# EAGLE library part LED-RGB-3W (library yapo)
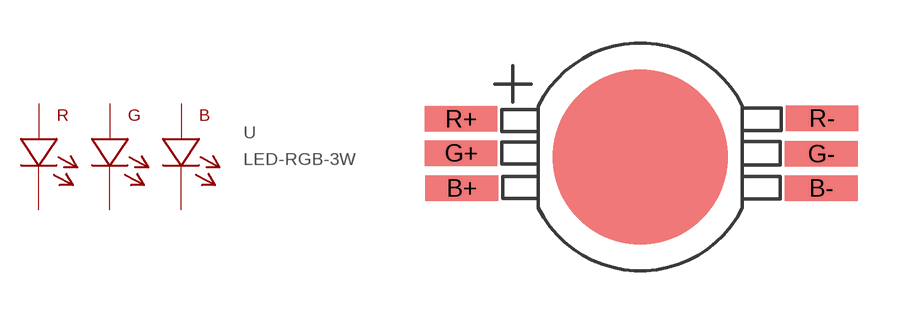
[diagram p83: symbol with the pads of LED_3W_RGB; footprint LED_3W_RGB]

Designator prefix -

## LED-RGB-3W  [LED_3W_RGB]
B+  B-A
B-  B-C
G+  G-A
G-  G-C
R+  R-A
R-  R-C

## Footprint LED_3W_RGB (pad centres in mm)
smd 2.54 x 0.889: B+ -6.223,-1.092; B- 6.299,-1.092; G+ -6.248,0.127; G- 6.299,0.102; R+ -6.248,1.321; R- 6.325,1.346